# Altium schematic symbol library Charger.SchLib: 1 symbol
Pins are listed as number, name and electrical type; pins without a type are passive.

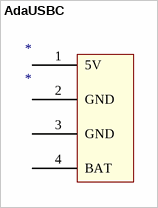
[diagram p0: symbol AdaUSBC]

## AdaUSBC
designator *
footprint AdaUSBC
pins: 1 5V, 2 GND, 3 GND, 4 BAT